# EAGLE library part CAT9532WI (library ON_Semiconductor_By_element14_Batch_1)
16-bit Programmable LED Dimmer with I2C Interface
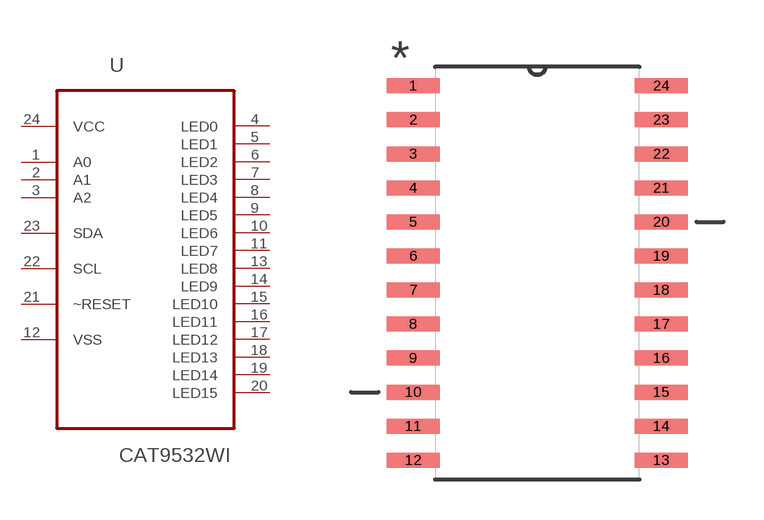
[diagram p19: symbol with the pads of SOIC127P1031X265-24N; footprint SOIC127P1031X265-24N]

Designator prefix U

## CAT9532WI (MPN: CAT9532WI.; OC_FARNELL: 1656134; OC_NEWARK: 11P0275; PACKAGE: SOIC-24; SUPPLIER: On Semiconductor)  [SOIC127P1031X265-24N]
1  A0  in
2  A1  in
3  A2  in
4  LED0  out
5  LED1  out
6  LED2  out
7  LED3  out
8  LED4  out
9  LED5  out
10  LED6  out
11  LED7  out
12  VSS  in
13  LED8  out
14  LED9  out
15  LED10  out
16  LED11  out
17  LED12  out
18  LED13  out
19  LED14  out
20  LED15  out
21  ~RESET  in
22  SCL  in
23  SDA  in
24  VCC  pwr

## Footprint SOIC127P1031X265-24N (pad centres in mm)
smd 1.981 x 0.559: 1 -4.623,6.985; 2 -4.623,5.715; 3 -4.623,4.445; 4 -4.623,3.175; 5 -4.623,1.905; 6 -4.623,0.635; 7 -4.623,-0.635; 8 -4.623,-1.905; 9 -4.623,-3.175; 10 -4.623,-4.445; 11 -4.623,-5.715; 12 -4.623,-6.985; 13 4.623,-6.985; 14 4.623,-5.715; 15 4.623,-4.445; 16 4.623,-3.175; 17 4.623,-1.905; 18 4.623,-0.635; 19 4.623,0.635; 20 4.623,1.905; 21 4.623,3.175; 22 4.623,4.445; 23 4.623,5.715; 24 4.623,6.985